# Altium footprint library PC110.PcbLib: 67 footprints (part 3 of 5)
Each footprint in its own frame and in the unit in brackets; x right, y up, seen from the top. Pads: shape width x height; smd on the part's side, far side on the other; paste and mask are expansions set on the pad; w line width, h text height; cw(c..) or ccw(c..) is an arc to the next point about the centre after c.
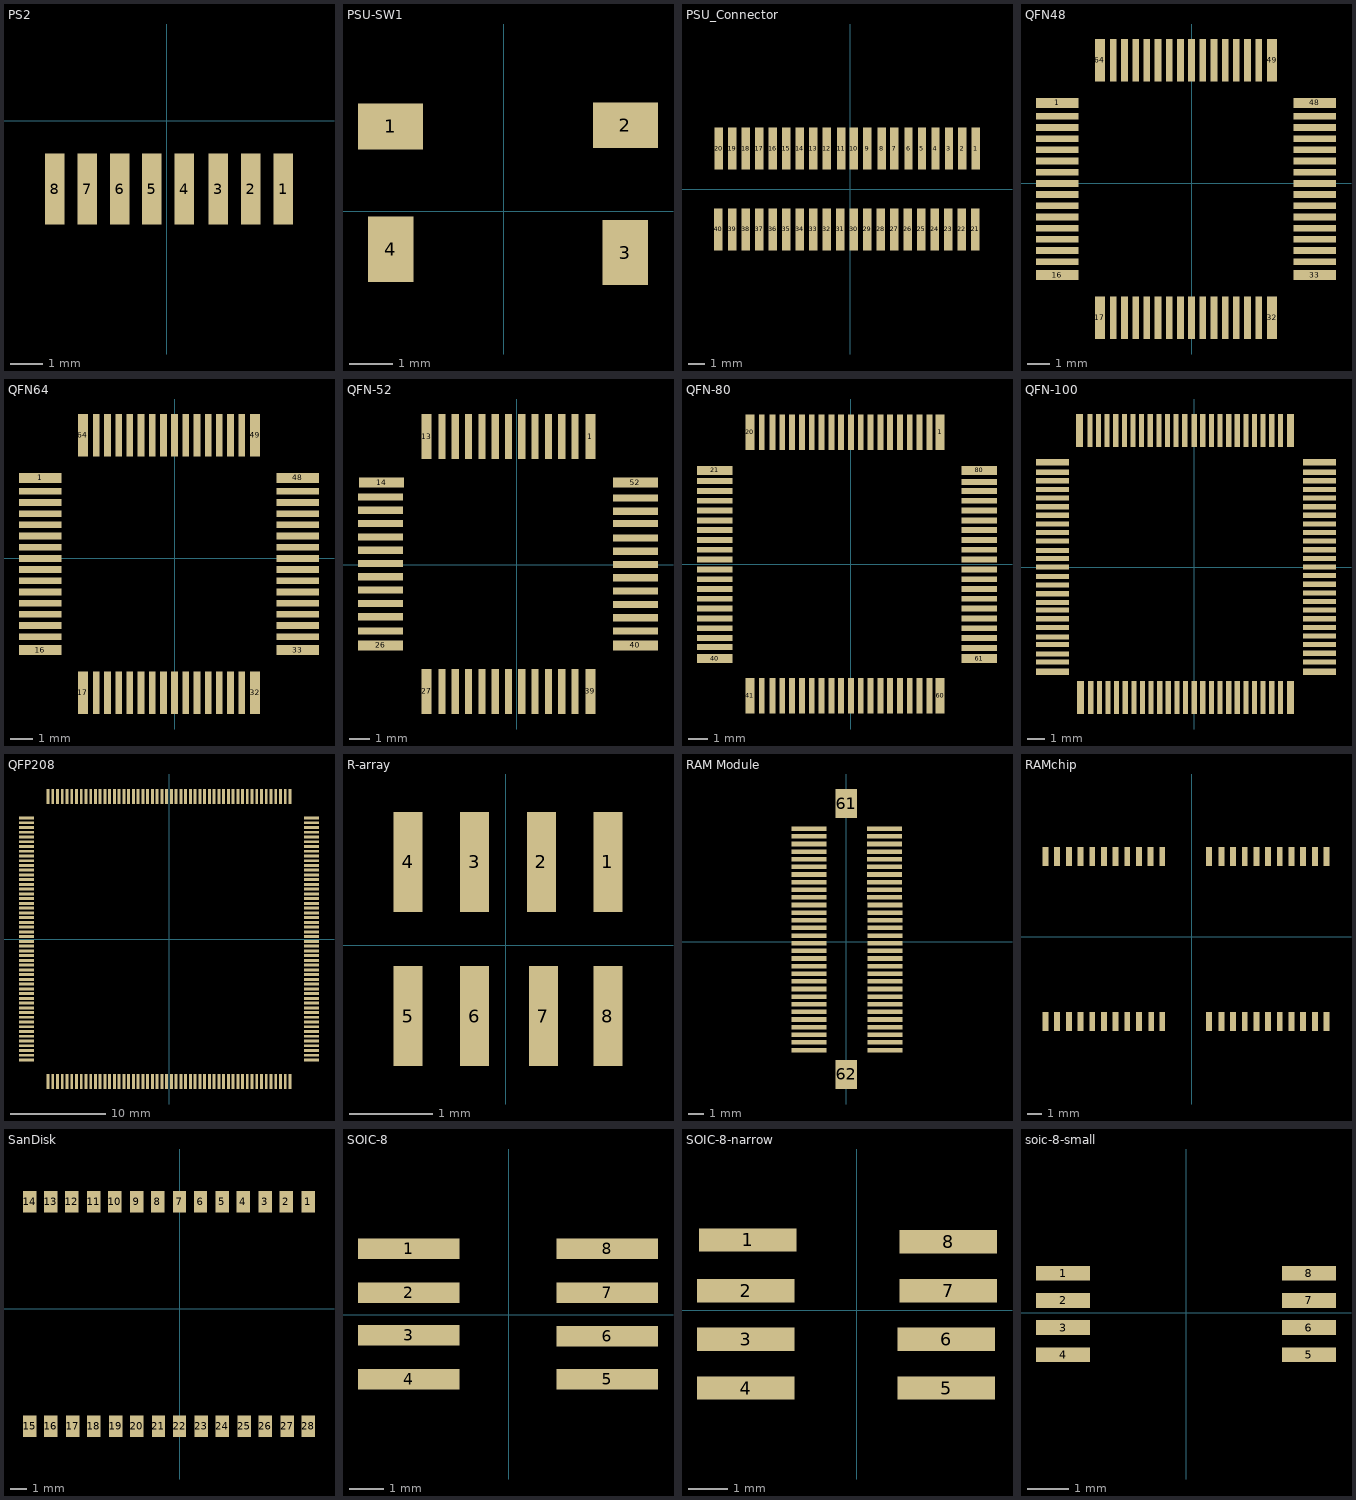
[diagram p2: the footprints below, top view; thin cyan lines are the x and y axes]

## PS2 [mm]
pads (8):
  rect 0.6x2.2 smd: 1(3.6,-2.1) 2(2.6,-2.1) 3(1.6,-2.1) 4(0.55,-2.1) 5(-0.45,-2.1) 6(-1.45,-2.1) 7(-2.45,-2.1) 8(-3.45,-2.1)

## PSU-SW1 [mm]
pads (4):
  rect 1.5x1.05 smd: 1(-2.6,1.95) 2(2.8,1.975)
  rect 1.05x1.5 smd: 3(2.8,-0.95) 4(-2.6,-0.875)

## PSU_Connector [mm]
pads (40):
  rect 0.5x2.5 smd: 1(7.45,2.4) 2(6.65,2.4) 3(5.85,2.4) 4(5.05,2.4) 5(4.25,2.4) 6(3.45,2.4) 7(2.6,2.4) 8(1.85,2.4) 9(1,2.4) 10(0.2,2.4) 11(-0.55,2.4) 12(-1.4,2.4) 13(-2.2,2.4) 14(-3,2.4) 15(-3.8,2.4) 16(-4.6,2.4) 17(-5.4,2.4) 18(-6.2,2.4) 19(-7,2.4) 20(-7.8,2.4) 21(7.4,-2.4) 22(6.6,-2.4) 23(5.8,-2.4) 24(5,-2.4) 25(4.2,-2.4) 26(3.4,-2.4) 27(2.6,-2.4) 28(1.8,-2.4) 29(1,-2.4) 30(0.2,-2.4) 31(-0.6,-2.4) 32(-1.4,-2.4) 33(-2.2,-2.4) 34(-3,-2.4) 35(-3.8,-2.4) 36(-4.6,-2.4) 37(-5.4,-2.4) 38(-6.2,-2.4) 39(-7,-2.4) 40(-7.85,-2.4)

## QFN48 [mm]
pads (64):
  rect 1.9x0.45 smd: 1(-6,3.6) 16(-6,-4.1) 33(5.5,-4.1) 48(5.5,3.6)
  rect 1.9x0.3 smd: 2(-6,3) 3(-6,2.5) 4(-6,2) 5(-6,1.5) 6(-6,1) 7(-6,0.5) 8(-6,0) 9(-6,-0.5) 10(-6,-1) 11(-6,-1.5) 12(-6,-2) 13(-6,-2.5) 14(-6,-3) 15(-6,-3.5) 34(5.5,-3.5) 35(5.5,-3) 36(5.5,-2.5) 37(5.5,-2) 38(5.5,-1.5) 39(5.5,-1) 40(5.5,-0.5) 41(5.5,0) 42(5.5,0.5) 43(5.5,1) 44(5.5,1.5) 45(5.5,2) 46(5.5,2.5) 47(5.5,3)
  rect 0.45x1.9 smd: 17(-4.1,-6) 32(3.6,-6) 49(3.6,5.5) 64(-4.1,5.5)
  rect 0.3x1.9 smd: 18(-3.5,-6) 19(-3,-6) 20(-2.5,-6) 21(-2,-6) 22(-1.5,-6) 23(-1,-6) 24(-0.5,-6) 25(0,-6) 26(0.5,-6) 27(1,-6) 28(1.5,-6) 29(2,-6) 30(2.5,-6) 31(3,-6) 50(3,5.5) 51(2.5,5.5) 52(2,5.5) 53(1.5,5.5) 54(1,5.5) 55(0.5,5.5) 56(0,5.5) 57(-0.5,5.5) 58(-1,5.5) 59(-1.5,5.5) 60(-2,5.5) 61(-2.5,5.5) 62(-3,5.5) 63(-3.5,5.5)

## QFN64 [mm]
pads (64):
  rect 1.9x0.45 smd: 1(-6,3.6) 16(-6,-4.1) 33(5.5,-4.1) 48(5.5,3.6)
  rect 1.9x0.3 smd: 2(-6,3) 3(-6,2.5) 4(-6,2) 5(-6,1.5) 6(-6,1) 7(-6,0.5) 8(-6,0) 9(-6,-0.5) 10(-6,-1) 11(-6,-1.5) 12(-6,-2) 13(-6,-2.5) 14(-6,-3) 15(-6,-3.5) 34(5.5,-3.5) 35(5.5,-3) 36(5.5,-2.5) 37(5.5,-2) 38(5.5,-1.5) 39(5.5,-1) 40(5.5,-0.5) 41(5.5,0) 42(5.5,0.5) 43(5.5,1) 44(5.5,1.5) 45(5.5,2) 46(5.5,2.5) 47(5.5,3)
  rect 0.45x1.9 smd: 17(-4.1,-6) 32(3.6,-6) 49(3.6,5.5) 64(-4.1,5.5)
  rect 0.3x1.9 smd: 18(-3.5,-6) 19(-3,-6) 20(-2.5,-6) 21(-2,-6) 22(-1.5,-6) 23(-1,-6) 24(-0.5,-6) 25(0,-6) 26(0.5,-6) 27(1,-6) 28(1.5,-6) 29(2,-6) 30(2.5,-6) 31(3,-6) 50(3,5.5) 51(2.5,5.5) 52(2,5.5) 53(1.5,5.5) 54(1,5.5) 55(0.5,5.5) 56(0,5.5) 57(-0.5,5.5) 58(-1,5.5) 59(-1.5,5.5) 60(-2,5.5) 61(-2.5,5.5) 62(-3,5.5) 63(-3.5,5.5)

## QFN-52 [mm]
pads (52):
  rect 0.5x2.2 smd: 1(3.6,6.25) 13(-4.4,6.25) 27(-4.4,-6.2) 39(3.6,-6.2)
  rect 0.35x2.2 smd: 2(2.85,6.25) 3(2.2,6.25) 4(1.55,6.25) 5(0.9,6.25) 6(0.25,6.25) 7(-0.4,6.25) 8(-1.05,6.25) 9(-1.7,6.25) 10(-2.35,6.25) 11(-3,6.25) 12(-3.65,6.25) 28(-3.65,-6.2) 29(-3,-6.2) 30(-2.35,-6.2) 31(-1.7,-6.2) 32(-1.05,-6.2) 33(-0.4,-6.2) 34(0.25,-6.2) 35(0.9,-6.2) 36(1.55,-6.2) 37(2.2,-6.2) 38(2.85,-6.2)
  rect 2.2x0.5 smd: 14(-6.6,4) 26(-6.65,-3.95) 40(5.8,-3.95) 52(5.8,4)
  rect 2.2x0.35 smd: 15(-6.65,3.3) 16(-6.65,2.65) 17(-6.65,2) 18(-6.65,1.35) 19(-6.65,0.7) 20(-6.65,0.05) 21(-6.65,-0.6) 22(-6.65,-1.25) 23(-6.65,-1.9) 24(-6.65,-2.55) 25(-6.65,-3.25) 41(5.8,-3.25) 42(5.8,-2.6) 43(5.8,-1.95) 44(5.8,-1.3) 45(5.8,-0.65) 46(5.8,0) 47(5.8,0.65) 48(5.8,1.3) 49(5.8,2) 50(5.8,2.6) 51(5.8,3.25)

## QFN-80 [mm]
pads (80):
  rect 0.45x1.8 smd: 1(4.55,6.75) 20(-5.15,6.75) 41(-5.15,-6.7) 60(4.55,-6.7)
  rect 0.3x1.8 smd: 2(4,6.75) 3(3.5,6.75) 4(3,6.75) 5(2.5,6.75) 6(2,6.75) 7(1.5,6.75) 8(1,6.75) 9(0.5,6.75) 10(0,6.75) 11(-0.5,6.75) 12(-1,6.75) 13(-1.5,6.75) 14(-2,6.75) 15(-2.5,6.75) 16(-3,6.75) 17(-3.5,6.75) 18(-4,6.75) 19(-4.55,6.75) 42(-4.55,-6.7) 43(-4,-6.7) 44(-3.5,-6.7) 45(-3,-6.7) 46(-2.5,-6.7) 47(-2,-6.7) 48(-1.5,-6.7) 49(-1,-6.7) 50(-0.5,-6.7) 51(0,-6.7) 52(0.5,-6.7) 53(1,-6.7) 54(1.5,-6.7) 55(2,-6.7) 56(2.5,-6.7) 57(3,-6.7) 58(3.5,-6.7) 59(4,-6.7)
  rect 1.8x0.45 smd: 21(-6.95,4.8) 40(-6.95,-4.8) 61(6.55,-4.8) 80(6.55,4.8)
  rect 1.8x0.3 smd: 22(-6.95,4.25) 23(-6.95,3.75) 24(-6.95,3.25) 25(-6.95,2.75) 26(-6.95,2.25) 27(-6.95,1.75) 28(-6.95,1.25) 29(-6.95,0.75) 30(-6.95,0.25) 31(-6.95,-0.25) 32(-6.95,-0.75) 33(-6.95,-1.25) 34(-6.95,-1.75) 35(-6.95,-2.25) 36(-6.95,-2.75) 37(-6.95,-3.25) 38(-6.95,-3.75) 39(-6.95,-4.2) 62(6.55,-4.25) 63(6.55,-3.75) 64(6.55,-3.25) 65(6.55,-2.75) 66(6.55,-2.25) 67(6.55,-1.75) 68(6.55,-1.25) 69(6.55,-0.75) 70(6.55,-0.25) 71(6.55,0.25) 72(6.55,0.75) 73(6.55,1.25) 74(6.55,1.75) 75(6.55,2.25) 76(6.55,2.75) 77(6.55,3.25) 78(6.55,3.75) 79(6.55,4.2)

## QFN-100 [mm]
pads (100):
  rect 0.4x1.9 smd: 1(-6.6,-7.575) 25(5.575,-7.575) 51(5.575,7.925) 75(-6.65,7.925)
  rect 0.3x1.9 smd: 2(-6,-7.575) 3(-5.5,-7.575) 4(-5,-7.575) 5(-4.5,-7.575) 6(-4,-7.575) 7(-3.5,-7.575) 8(-3,-7.575) 9(-2.5,-7.575) 10(-2,-7.575) 11(-1.5,-7.575) 12(-1,-7.575) 13(-0.5,-7.575) 14(0,-7.575) 15(0.5,-7.575) 16(1,-7.575) 17(1.5,-7.575) 18(2,-7.575) 19(2.5,-7.575) 20(3,-7.575) 21(3.5,-7.575) 22(4,-7.575) 23(4.5,-7.575) 24(5,-7.575) 52(5,7.925) 53(4.5,7.925) 54(4,7.925) 55(3.5,7.925) 56(3,7.925) 57(2.5,7.925) 58(2,7.925) 59(1.5,7.925) 60(1,7.925) 61(0.5,7.925) 62(0,7.925) 63(-0.55,7.925) 64(-1.05,7.925) 65(-1.55,7.925) 66(-2.05,7.925) 67(-2.55,7.925) 68(-3.05,7.925) 69(-3.55,7.925) 70(-4.05,7.925) 71(-4.55,7.925) 72(-5.05,7.925) 73(-5.55,7.925) 74(-6.05,7.925)
  rect 1.9x0.4 smd: 26(7.275,-6.075) 50(7.275,6.075) 76(-8.225,6.075) 100(-8.225,-6.075)
  rect 1.9x0.3 smd: 27(7.275,-5.5) 28(7.275,-5) 29(7.275,-4.5) 30(7.275,-4) 31(7.275,-3.5) 32(7.275,-3) 33(7.275,-2.5) 34(7.275,-2) 35(7.275,-1.5) 36(7.275,-1) 37(7.275,-0.5) 38(7.275,0) 39(7.275,0.5) 40(7.275,1) 41(7.275,1.5) 42(7.275,2) 43(7.275,2.5) 44(7.275,3) 45(7.275,3.5) 46(7.275,4) 47(7.275,4.5) 48(7.275,5) 49(7.275,5.5) 77(-8.225,5.5) 78(-8.225,5) 79(-8.225,4.5) 80(-8.225,4) 81(-8.225,3.5) 82(-8.225,3) 83(-8.225,2.5) 84(-8.225,2) 85(-8.225,1.5) 86(-8.225,0.95) 87(-8.225,0.5) 88(-8.225,0) 89(-8.225,-0.55) 90(-8.225,-1.05) 91(-8.225,-1.55) 92(-8.225,-2.05) 93(-8.225,-2.5) 94(-8.225,-3) 95(-8.225,-3.5) 96(-8.225,-4.05) 97(-8.225,-4.5) 98(-8.225,-5.05) 99(-8.225,-5.5)

## QFP208 [mm]
pads (208):
  rect 1.6x0.3 smd: 1(-15,12.75) 2(-15,12.25) 3(-15,11.75) 4(-15,11.25) 5(-15,10.75) 6(-15,10.25) 7(-15,9.75) 8(-15,9.25) 9(-15,8.75) 10(-15,8.25) 11(-15,7.75) 12(-15,7.25) 13(-15,6.75) 14(-15,6.25) 15(-15,5.75) 16(-15,5.25) 17(-15,4.75) 18(-15,4.25) 19(-15,3.75) 20(-15,3.25) 21(-15,2.75) 22(-15,2.25) 23(-15,1.75) 24(-15,1.25) 25(-15,0.75) 26(-15,0.25) 27(-15,-0.25) 28(-15,-0.75) 29(-15,-1.25) 30(-15,-1.75) 31(-15,-2.25) 32(-15,-2.75) 33(-15,-3.25) 34(-15,-3.75) 35(-15,-4.25) 36(-15,-4.75) 37(-15,-5.25) 38(-15,-5.75) 39(-15,-6.25) 40(-15,-6.75) 41(-15,-7.25) 42(-15,-7.75) 43(-15,-8.25) 44(-15,-8.75) 45(-15,-9.25) 46(-15,-9.75) 47(-15,-10.25) 48(-15,-10.75) 49(-15,-11.25) 50(-15,-11.75) 51(-15,-12.25) 52(-15,-12.75) 105(15,-12.75) 106(15,-12.25) 107(15,-11.75) 108(15,-11.25) 109(15,-10.75) 110(15,-10.25) 111(15,-9.75) 112(15,-9.25) 113(15,-8.75) 114(15,-8.25) 115(15,-7.75) 116(15,-7.25) 117(15,-6.75) 118(15,-6.25) 119(15,-5.75) 120(15,-5.25) 121(15,-4.75) 122(15,-4.25) 123(15,-3.75) 124(15,-3.25) 125(15,-2.75) 126(15,-2.25) 127(15,-1.75) 128(15,-1.25) 129(15,-0.75) 130(15,-0.25) 131(15,0.25) 132(15,0.75) 133(15,1.25) 134(15,1.75) 135(15,2.25) 136(15,2.75) 137(15,3.25) 138(15,3.75) 139(15,4.25) 140(15,4.75) 141(15,5.25) 142(15,5.75) 143(15,6.25) 144(15,6.75) 145(15,7.25) 146(15,7.75) 147(15,8.25) 148(15,8.75) 149(15,9.25) 150(15,9.75) 151(15,10.25) 152(15,10.75) 153(15,11.25) 154(15,11.75) 155(15,12.25) 156(15,12.75)
  rect 0.3x1.6 smd: 53(-12.75,-15) 54(-12.25,-15) 55(-11.75,-15) 56(-11.25,-15) 57(-10.75,-15) 58(-10.25,-15) 59(-9.75,-15) 60(-9.25,-15) 61(-8.75,-15) 62(-8.25,-15) 63(-7.75,-15) 64(-7.25,-15) 65(-6.75,-15) 66(-6.25,-15) 67(-5.75,-15) 68(-5.25,-15) 69(-4.75,-15) 70(-4.25,-15) 71(-3.75,-15) 72(-3.25,-15) 73(-2.75,-15) 74(-2.25,-15) 75(-1.75,-15) 76(-1.25,-15) 77(-0.75,-15) 78(-0.25,-15) 79(0.25,-15) 80(0.75,-15) 81(1.25,-15) 82(1.75,-15) 83(2.25,-15) 84(2.75,-15) 85(3.25,-15) 86(3.75,-15) 87(4.25,-15) 88(4.75,-15) 89(5.25,-15) 90(5.75,-15) 91(6.25,-15) 92(6.75,-15) 93(7.25,-15) 94(7.75,-15) 95(8.25,-15) 96(8.75,-15) 97(9.25,-15) 98(9.75,-15) 99(10.25,-15) 100(10.75,-15) 101(11.25,-15) 102(11.75,-15) 103(12.25,-15) 104(12.75,-15) 157(12.75,15) 158(12.25,15) 159(11.75,15) 160(11.25,15) 161(10.75,15) 162(10.25,15) 163(9.75,15) 164(9.25,15) 165(8.75,15) 166(8.25,15) 167(7.75,15) 168(7.25,15) 169(6.75,15) 170(6.25,15) 171(5.75,15) 172(5.25,15) 173(4.75,15) 174(4.25,15) 175(3.75,15) 176(3.25,15) 177(2.75,15) 178(2.25,15) 179(1.75,15) 180(1.25,15) 181(0.75,15) 182(0.25,15) 183(-0.25,15) 184(-0.75,15) 185(-1.25,15) 186(-1.75,15) 187(-2.25,15) 188(-2.75,15) 189(-3.25,15) 190(-3.75,15) 191(-4.25,15) 192(-4.75,15) 193(-5.25,15) 194(-5.75,15) 195(-6.25,15) 196(-6.75,15) 197(-7.25,15) 198(-7.75,15) 199(-8.25,15) 200(-8.75,15) 201(-9.25,15) 202(-9.75,15) 203(-10.25,15) 204(-10.75,15) 205(-11.25,15) 206(-11.75,15) 207(-12.25,15) 208(-12.75,15)

## R-array [mm]
pads (8):
  rect 0.35x1.2 smd: 1(1.225,1) 2(0.425,1) 3(-0.375,1) 4(-1.175,1) 5(-1.175,-0.85) 6(-0.375,-0.85) 7(0.45,-0.85) 8(1.225,-0.85)

## RAM Module [mm]
pads (62):
  rect 2.3x0.3 smd: 1(2.5,7.4) 2(2.5,6.9) 3(2.5,6.4) 4(2.5,5.9) 5(2.5,5.4) 6(2.5,4.9) 7(2.5,4.4) 8(2.5,3.9) 9(2.5,3.4) 10(2.5,2.9) 11(2.55,2.4) 12(2.55,1.9) 13(2.55,1.4) 14(2.55,0.9) 15(2.55,0.4) 16(2.55,-0.1) 17(2.55,-0.6) 18(2.55,-1.1) 19(2.55,-1.6) 20(2.55,-2.1) 21(2.55,-2.6) 22(2.55,-3.1) 23(2.55,-3.6) 24(2.55,-4.1) 25(2.55,-4.6) 26(2.55,-5.1) 27(2.55,-5.6) 28(2.55,-6.1) 29(2.55,-6.6) 30(2.55,-7.1) 31(-2.45,-7.1) 32(-2.45,-6.6) 33(-2.45,-6.1) 34(-2.45,-5.6) 35(-2.45,-5.1) 36(-2.45,-4.6) 37(-2.45,-4.1) 38(-2.45,-3.6) 39(-2.45,-3.1) 40(-2.45,-2.6) 41(-2.45,-2.1) 42(-2.45,-1.6) 43(-2.45,-1.1) 44(-2.45,-0.6) 45(-2.45,-0.1) 46(-2.45,0.4) 47(-2.45,0.9) 48(-2.45,1.4) 49(-2.45,1.9) 50(-2.45,2.4) 51(-2.45,2.9) 52(-2.45,3.4) 53(-2.45,3.9) 54(-2.45,4.4) 55(-2.45,4.9) 56(-2.45,5.4) 57(-2.45,5.9) 58(-2.45,6.4) 59(-2.45,6.9) 60(-2.45,7.4)
  rect 1.4x1.9 smd: 61(0,9.05) 62(0,-8.7)

## RAMchip [mm]
pads (44):
  rect 0.4x1.3 smd: 1(9.225,5.475) 2(8.425,5.475) 3(7.625,5.475) 4(6.825,5.475) 5(6.025,5.475) 6(5.225,5.475) 7(4.425,5.475) 8(3.625,5.475) 9(2.825,5.475) 10(2.025,5.475) 11(1.175,5.475) 12(-2.025,5.475) 13(-2.825,5.475) 14(-3.625,5.475) 15(-4.425,5.475) 16(-5.225,5.475) 17(-6.025,5.475) 18(-6.825,5.475) 19(-7.625,5.475) 20(-8.425,5.475) 21(-9.225,5.475) 22(-10.025,5.475) 23(-10.025,-5.8) 24(-9.225,-5.8) 25(-8.425,-5.8) 26(-7.625,-5.8) 27(-6.825,-5.8) 28(-6.025,-5.8) 29(-5.225,-5.8) 30(-4.425,-5.8) 31(-3.625,-5.8) 32(-2.775,-5.8) 33(-2.025,-5.8) 34(1.175,-5.8) 35(2.025,-5.8) 36(2.825,-5.8) 37(3.625,-5.8) 38(4.425,-5.8) 39(5.225,-5.8) 40(6.025,-5.8) 41(6.825,-5.8) 42(7.625,-5.8) 43(8.425,-5.8) 44(9.225,-5.8)

## SanDisk [mm]
pads (28):
  rect 0.8x1.3 smd: 1(7.65,6.375) 2(6.35,6.375) 3(5.1,6.375) 4(3.8,6.375) 5(2.55,6.375) 6(1.25,6.375) 7(0,6.375) 8(-1.3,6.375) 9(-2.55,6.375) 10(-3.85,6.375) 11(-5.1,6.375) 12(-6.4,6.375) 13(-7.65,6.375) 14(-8.9,6.375) 15(-8.9,-6.975) 16(-7.65,-6.975) 17(-6.35,-6.975) 18(-5.1,-6.975) 19(-3.8,-6.975) 20(-2.55,-6.975) 21(-1.25,-6.975) 22(0,-6.975) 23(1.3,-6.975) 24(2.55,-6.975) 25(3.85,-6.975) 26(5.1,-6.975) 27(6.4,-6.975) 28(7.65,-6.975)

## SOIC-8 [mm]
pads (8):
  rect 3x0.6 smd: 1(-2.95,1.95) 2(-2.95,0.65) 3(-2.95,-0.6) 4(-2.95,-1.9) 5(2.9,-1.905) 6(2.9,-0.635) 7(2.9,0.65) 8(2.9,1.95)

## SOIC-8-narrow [mm]
pads (8):
  rect 2.5x0.6 smd: 1(-2.8,1.8) 2(-2.85,0.5) 3(-2.85,-0.75) 4(-2.85,-2) 5(2.3,-2) 6(2.3,-0.75) 7(2.35,0.5) 8(2.35,1.75)

## soic-8-small [mm]
pads (8):
  rect 1.3x0.35 smd: 1(-2.95,0.95) 2(-2.95,0.3) 3(-2.95,-0.35) 4(-2.95,-1) 5(2.95,-1) 6(2.95,-0.35) 7(2.95,0.3) 8(2.95,0.95)